# EAGLE library part BQ24133RGYT (library Deegou_IC)
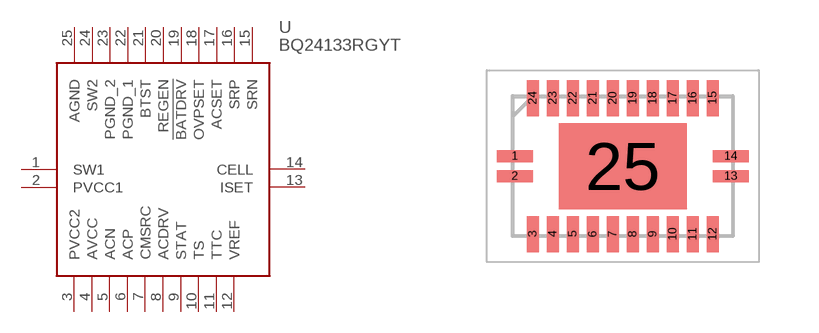
[diagram p127: symbol with the pads of QFN50P550X350X100-25N; footprint QFN50P550X350X100-25N]

Designator prefix U

## BQ24133RGYT (ARROW_PART_NUMBER: BQ24133RGYT; ARROW_PRICE-STOCK: https://www.arrow.com/en/products/bq24133rgyt/texas-instruments; DESCRIPTION: Synchronous Switch-Mode Li-Ion and Li-Polymer Stand-Alone Battery Charger; HEIGHT: 1mm; MANUFACTURER_NAME: Texas Instruments; MANUFACTURER_PART_NUMBER: BQ24133RGYT; RS_PART_NUMBER: 8279263P; RS_PRICE-STOCK: http://uk.rs-online.com/web/p/products/8279263P)  [QFN50P550X350X100-25N]
1  SW1  out
2  PVCC1  pwr
3  PVCC2  pwr
4  AVCC  pwr
5  ACN  in
6  ACP  in
7  CMSRC  out
8  ACDRV  out
9  STAT  out
10  TS  in
11  TTC  in
12  VREF  pwr
13  ISET  in
14  CELL  in
15  SRN  in
16  SRP  in
17  ACSET  in
18  OVPSET  in
19  !BATDRV  out
20  REGEN  pwr
21  BTST  pwr
22  PGND_1  pwr
23  PGND_2  pwr
24  SW2  out
25  AGND  pwr

## Footprint QFN50P550X350X100-25N (pad centres in mm)
RGY (R-PVQFN-N24)
smd 0.9 x 0.3: 1 -2.7,0.25; 2 -2.7,-0.25; 13 2.7,-0.25; 14 2.7,0.25
smd 0.3 x 0.9: 3 -2.25,-1.7; 4 -1.75,-1.7; 5 -1.25,-1.7; 6 -0.75,-1.7; 7 -0.25,-1.7; 8 0.25,-1.7; 9 0.75,-1.7; 10 1.25,-1.7; 11 1.75,-1.7; 12 2.25,-1.7; 15 2.25,1.7; 16 1.75,1.7; 17 1.25,1.7; 18 0.75,1.7; 19 0.25,1.7; 20 -0.25,1.7; 21 -0.75,1.7; 22 -1.25,1.7; 23 -1.75,1.7; 24 -2.25,1.7
smd 3.2 x 2.15: 25 0,0